# Altium schematic symbol library Schematic_Parts.SchLib: 5 symbols
Pins are listed as number, name and electrical type; pins without a type are passive.

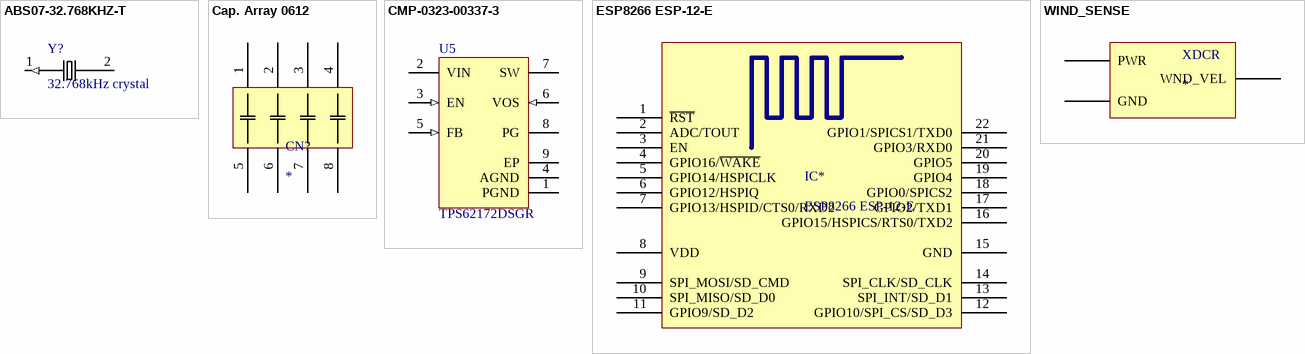
[diagram p0: symbols ABS07-32.768KHZ-T to WIND_SENSE]

## ABS07-32.768KHZ-T
designator Y?, comment 32.768kHz crystal
ABS07 Series 32.768 kHz %C2%B120 ppm 12.5 pF -40 to %2B85 %C2%B0C SMT Low Profile Crystal; MF: Abracon; MP: ABS07-32.768KHZ-T; Package: 0805 Abracon; Availability: Good; Price: 0.44 USD; Value: *
footprint XTAL320X150X90
pins: 1 (out), 2

## Cap. Array 0612
designator CN?
footprint Cap. Array 0612
footprint Cap. Array 0612
pins: 1, 2, 3, 4, 5, 6, 7, 8

## CMP-0323-00337-3
designator U5, comment TPS62172DSGR
Buck Step Down Regulator with 3 to 17 V Input and 3.3 V Output, -40 to 85 degC, 8-Pin WSON (DSG), Green (RoHS & no Sb/Br); Manufacturer: Texas Instruments; Vout(Max)(V): 3.3; Iq(Typ)(mA): 0.017; Switch Current Limit(Typ)(A): 1.05; Regulated Outputs(#): 1; Vin(Min)(V): 3; Duty Cycle(Max)(%): 100; Iout(Max)(A): 0.5; Synchronous Rectification: TRUE; SubFamily: Step-Down Regulator; Rating: Catalog; Vin(Max)(V): 17; Eco-Plan: Green (RoHS & no Sb/Br); ComponentLink1URL: http://www.ti.com/general/docs/lit/getliterature.tsp?genericPartNumber=TPS62172&fileType=pdf; Code_JEDEC: MO-229; ComponentLink3Description: URL Link1; ComponentLink2URL: http://www.ti.com/litv/pdf/mpds308a; Mounting Technology: Surface Mount; Preset Vout(V): 3.3; ComponentLink1Description: Datasheet; PackageVersion: revB, Oct-2010; PackageReference: DSG0008A; Topology: Buck; PartNumber: TPS62172DSGR; DatasheetVersion: SLVSAT8A; ComponentLink3URL: Samples URL:http://www.ti.com/product/tps62172#samples; PackageDescription: 8-Pin Plastic Small Outline No-Lead, 2 x 2 x 0.8 mm Body, 0.5 mm Pitch, Exposed Pad; ComponentLink2Description: Package Specification; Vout(Min)(V): 3.3
footprint DSG0008A_V (SON, 8-Leads, Body 2x2mm, Pitch 0.5mm, Thermal Pad 1.6x0.9mm, TI Recommended)
pins: 1 PGND (power) "Power ground", 2 VIN (power) "Supply voltage", 3 EN (in) "Enable input (High = enabled, Low = disabled)", 4 AGND (power) "Analog Ground", 5 FB (in) "Voltage feedback of adjustable version. Connect resistive voltage divider to this pin. It is recommended to connect FB to AGND on fixed output voltage versions for improved thermal performance.", 6 VOS (in) "Output voltage sense pin and connection for the control loop circuitry.", 7 SW (power) "Switch node, which is connected to the internal MOSFET switches. Connect inductor between SW and output capacitor.", 8 PG (hiz) "Output power good (High = VOUT ready, Low = VOUT below nominal regulation) ; open drain (requires pull-up resistor; goes high impedance, when device is switched off)", 9 EP (power) "Must be connected to AGND. Must be soldered to achieve appropriate power dissipation and mechanical reliability."

## ESP8266 ESP-12-E
designator IC*
footprint ESP8266 ESP-12-E
pins: 1 ~{RST} "Reset", 2 ADC/TOUT "ADC Input Or TOUT Output", 3 EN "Chip enable", 4 GPIO16/~{WAKE} "GPIO16 or Deep-Sleep Wakeup", 5 GPIO14/HSPICLK "GPIO14 or SPI CLK", 6 GPIO12/HSPIQ "GPIO12 or SPIQ", 7 GPIO13/HSPID/CTS0/RXD2 "GPIO13 or SPID", 8 VDD "Power supply", 9 SPI_MOSI/SD_CMD "GPIO14 or SPI CLK", 10 SPI_MISO/SD_D0 "GPIO12 or SPIQ", 11 GPIO9/SD_D2 "GPIO13 or SPID", 12 GPIO10/SPI_CS/SD_D3 "GPIO15 or SPICS", 13 SPI_INT/SD_D1 "GPIO2 or TX", 14 SPI_CLK/SD_CLK "GPIO0 or SPICS2", 15 GND "Power ground", 16 GPIO15/HSPICS/RTS0/TXD2 "GPIO15 or SPICS", 17 GPIO2/TXD1 "GPIO2 or TX", 18 GPIO0/SPICS2 "GPIO0 or SPICS2", 19 GPIO4 "GPIO5", 20 GPIO5 "GPIO4", 21 GPIO3/RXD0 "GPIO3 or UART RXD", 22 GPIO1/SPICS1/TXD0 "GPIO1 or UART TXD"

## WIND_SENSE
designator XDCR
This is a placeholder for the off-board wind transducer
pins: 1 PWR, 1 GND, 3 WND_VEL